# Altium footprint library CR-1206-0805.PcbLib: 1 footprints
Each footprint in its own frame and in the unit in brackets; x right, y up, seen from the top. Pads: shape width x height; smd on the part's side, far side on the other; paste and mask are expansions set on the pad; w line width, h text height; cw(c..) or ccw(c..) is an arc to the next point about the centre after c.
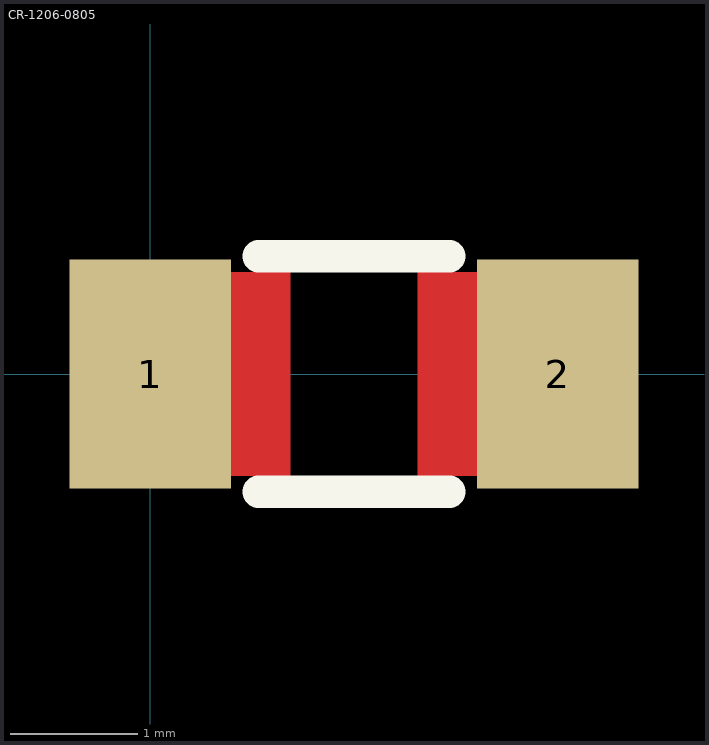
[diagram p0: the footprint, top view; thin cyan lines are the x and y axes]

## CR-1206-0805 [mm]
height 1.27
pads (2):
  rect 1.27x1.8 smd: 1(0,0) 2(3.2,0)
Top Layer:
  rectangle: 0.6,-0.8 1.1,0.8
  rectangle: 2.1,-0.8 2.6,0.8
Top Overlay:
  lines w0.254: 0.85,-0.925 2.35,-0.925 ; 0.85,0.925 2.35,0.925
Top Solder:
  rectangle: 2.119,-0.9 2.5,0.878
  rectangle: 0.719,-0.9 1.1,0.878
3D body: height 2, standoff 0, extent 0,-0.812 3.2,0.812